# EAGLE library part USB_MINI_RECEPTACLE (library eagle-book)
8-pin USB Mini Receptacle
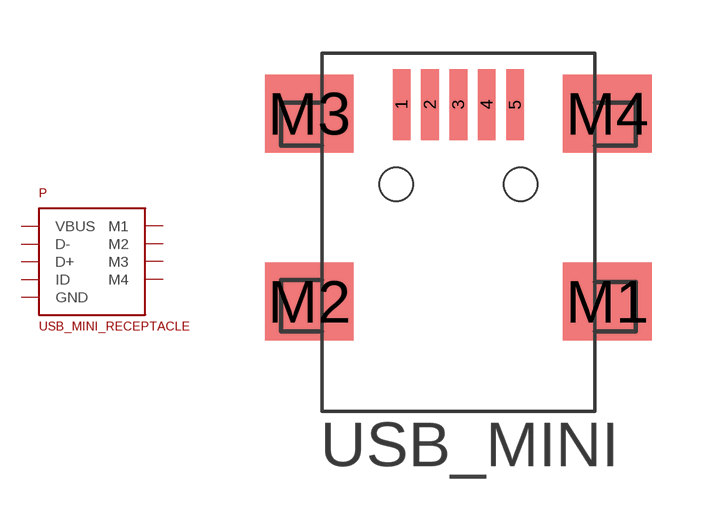
[diagram p0: symbol with the pads of USB5MINI; footprint USB5MINI]

Designator prefix P

## USB_MINI_RECEPTACLE  [USB5MINI]
1  VBUS
2  D-
3  D+
4  ID
5  GND  pwr
M1  M1  pwr
M2  M2  pwr
M3  M3  pwr
M4  M4  pwr

## Footprint USB5MINI (pad centres in mm)
Mini USB Connector
smd 0.5 x 2: 1 -1.6,4.2; 2 -0.8,4.2; 3 0,4.2; 4 0.8,4.2; 5 1.6,4.2
smd 2.5 x 2.2: M1 4.2,-1.35; M2 -4.2,-1.35; M3 -4.2,3.95; M4 4.2,3.95
hole 0.95 at 1.75,1.95
hole 0.95 at -1.75,1.95